# Altium footprint library PCB_v01.PcbLib: 31 footprints (part 1 of 2)
Each footprint in its own frame and in the unit in brackets; x right, y up, seen from the top. Pads: shape width x height; smd on the part's side, far side on the other; paste and mask are expansions set on the pad; w line width, h text height; cw(c..) or ccw(c..) is an arc to the next point about the centre after c.
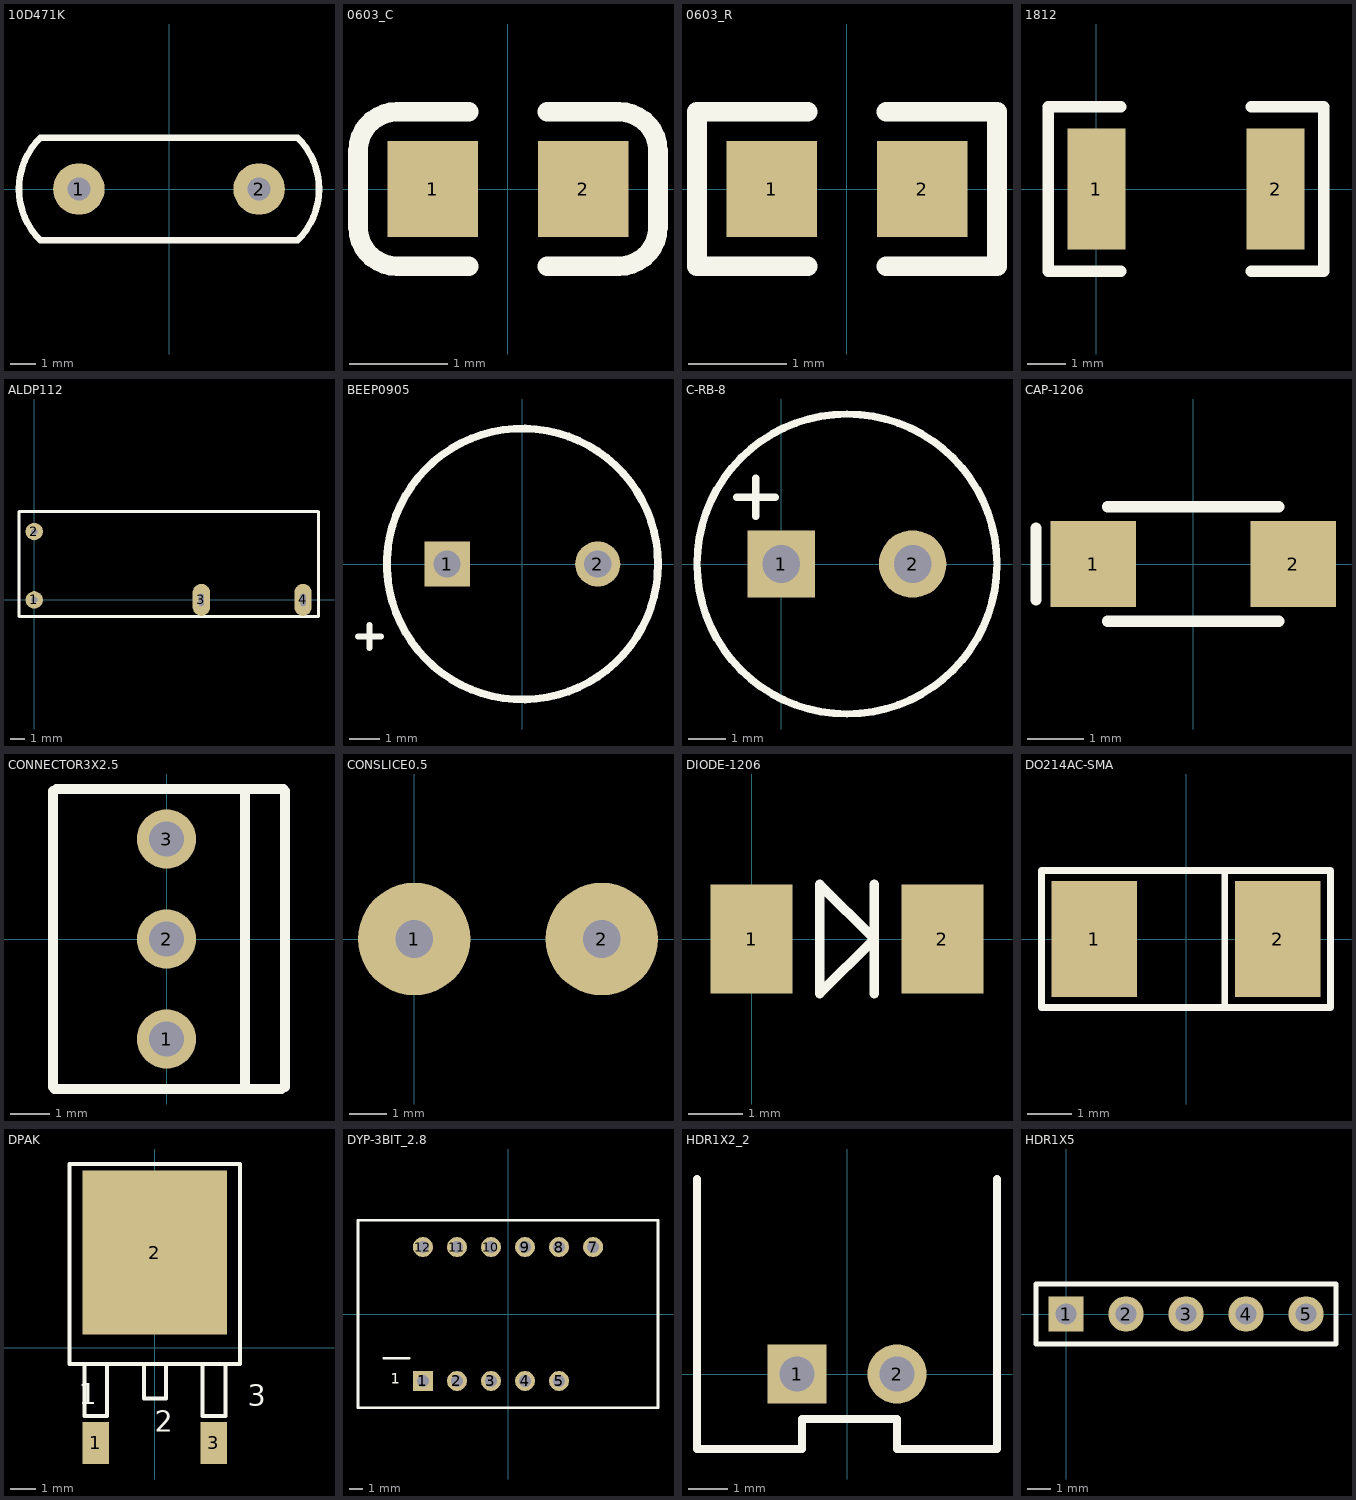
[diagram p0: the footprints below, top view; thin cyan lines are the x and y axes]

## 10D471K [mm]
pads (2):
  round 2 hole 0.9: 1(-3.5,0) 2(3.5,0)
Top Overlay:
  lines w0.254: -5,-2 cw(c-3,0) -5,2 5,2 cw(c3,0) 5,-2 -5,-2

## 0603_C [mm]
pads (2):
  rect 0.93x0.98 smd: 1(-0.77,0) 2(0.77,0)
Top Overlay:
  lines w0.2: -0.4,-0.79 -1.135,-0.79 cw(c-1.135,-0.39) -1.535,-0.39 -1.535,0.39 cw(c-1.135,0.39) -1.135,0.79 -0.4,0.79 ; 0.4,-0.79 1.135,-0.79 ccw(c1.135,-0.39) 1.535,-0.39 1.535,0.39 ccw(c1.135,0.39) 1.135,0.79 0.4,0.79
3D body: height 0.3, standoff 0, extent -0.8,-0.4 0.8,0.4

## 0603_R [mm]
pads (2):
  rect 0.93x0.98 smd: 1(-0.77,0) 2(0.77,0)
Top Overlay:
  lines w0.2: -0.4,-0.79 -1.535,-0.79 -1.535,0.79 -0.4,0.79 ; 0.4,-0.79 1.535,-0.79 1.535,0.79 0.4,0.79
3D body: height 0.56, standoff 0, extent -0.85,-0.4 0.85,0.4

## 1812 [mil]
pads (2):
  rect 60x125 smd: 1(0,0) 2(185,0)
Top Overlay:
  lines w12: 25,-85 -50,-85 -50,85 25,85 ; 160,-85 235,-85 235,85 160,85

## ALDP112 [mm]
pads (4):
  round 1.2 hole 0.45: 1(0,0) 2(0,4.7)
  rrect100% 1.2x2.2 hole 0.35 slot 0.85 at 90 deg: 3(11.5,0) 4(18.5,0)
Top Overlay:
  lines w0.2: -1.05,-1.143 19.558,-1.143 19.558,6.064 19.542,6.08 -1.05,6.08 -1.05,-1.143

## BEEP0905 [mm] "蜂鸣器"
height 6
pads (2):
  rect 1.5x1.5 hole 0.9: 1(-2.5,0)
  round 1.5 hole 0.9: 2(2.5,0)
Top Overlay:
  circle w0.254: c0,0 r4.5
  lines w0.2: -5.461,-2.413 -4.699,-2.413 ; -5.08,-2.794 -5.08,-2.032

## C-RB-8 [mm] "35V 220UF电容"
height 12
pads (2):
  rect 1.8x1.8 hole 1: 1(0,0)
  round 1.8 hole 1: 2(3.5,0)
Top Overlay:
  circle w0.2: c1.75,0 r4
  lines w0.2: -1.185,1.778 -0.169,1.778 ; -0.677,1.27 -0.677,2.286

## CAP-1206 [mil] "贴片元件"
height 59.06
pads (2):
  rect 60x60 smd: 1(-70,0) 2(70,0)
Top Overlay:
  lines w7.87: -110,-25 -110,25 ; -60,-40 60,-40 ; -60,40 60,40
3D body: height 39.37, standoff 0, extent -65,-35 -45,35
3D body: height 39.37, standoff 0, extent 45,-35 65,35
3D body: height 39.37, standoff 0, extent -55,-35 55,35

## CONNECTOR3X2.5 [mm]
pads (3):
  round 1.5 hole 0.9: 1(0,-2.54) 2(0,0) 3(0,2.54)
Top Overlay:
  lines w0.254: -2.88,-3.76 -2.88,3.76 ; -2.839,-3.81 2.921,-3.81 ; -2.794,3.81 2.966,3.81 ; 1.991,-3.76 1.991,3.76 ; 3.007,-3.76 3.007,3.76

## CONSLICE0.5 [mm]
pads (2):
  round 3 hole 1 square: 1(0,0) 2(5,0)

## DIODE-1206 [mm] "玻璃封装二极管"
height 3
pads (2):
  rect 1.5x2 smd: 1(0,0) 2(3.5,0)
Top Overlay:
  lines w0.178: 2.25,-1 2.25,1 ; 1.25,-1 1.25,1 2.25,0 1.25,-1

## DO214AC-SMA [mil]
pads (2):
  rect 75x102 smd: 1(-80.7,0) 2(80.7,0)
Top Overlay:
  lines w6: 34,-60 34,60 ; -127,-60 127,-60 127,60 -127,60 -127,-60
3D body: height 98.15, standoff 0, extent -103.93,-54.92 103.94,54.93

## DPAK [mil]
pads (3):
  rect 40x64 smd: 1(-90,-145) 3(90,-145)
  rect 220x250 smd: 2(0,145)
Top Overlay:
  lines w6: -107,-25 -107,-104 -72.5,-104 -72.5,-25 ; -16.5,-25 -16.5,-77 17,-77 17,-25 ; 73,-25 73,-104 107.5,-104 107.5,-25 ; -130,-25 -130,280 130,280 130,-25 -130,-25
  text "1" at -116,-86 h31.5
  text "3" at 142,-88 h31.5
  text "2" at 0,-128 h31.5
3D body: height 95.09, standoff 0.6, extent -129.84,-150.82 130,246.82

## DYP-3BIT_2.8 [mm] "数码管"
height 1.2
pads (11):
  rect 1.5x1.5 hole 0.9: 1(-6.35,-5)
  round 1.5 hole 0.9: 2(-3.81,-5) 3(-1.27,-5) 4(1.27,-5) 5(3.81,-5) 7(6.35,5) 8(3.81,5) 9(1.27,5) 10(-1.27,5) 11(-3.81,5) 12(-6.35,5)
Top Overlay:
  lines w0.2: -9.271,-3.302 -7.366,-3.302 ; -11.2,-7 11.2,-7 11.2,7 -11.2,7 -11.2,-7
  text "1" at -8.763,-5.207 h0.8

## HDR1X2_2 [mm] "Connector; Header; 2 Position"
pads (2):
  rect 1.5x1.5 hole 0.9: 1(-1.27,0)
  round 1.5 hole 0.9: 2(1.27,0)
Top Overlay:
  lines w0.2: -3.81,4.953 -3.81,-1.905 -1.143,-1.905 -1.143,-1.143 1.27,-1.143 1.27,-1.905 3.81,-1.905 3.81,4.953

## HDR1X5 [mm] "Connector; Header; 5 Position"
pads (5):
  rect 1.5x1.5 hole 0.9: 1(0,0)
  round 1.5 hole 0.9: 2(2.54,0) 3(5.08,0) 4(7.62,0) 5(10.16,0)
Top Overlay:
  lines w0.2: -1.27,-1.27 -1.27,1.27 11.43,1.27 11.43,-1.27 -1.27,-1.27